# Altium schematic symbol library Crystal_Oscillator.SchLib: 1 symbol
Pins are listed as number, name and electrical type; pins without a type are passive.

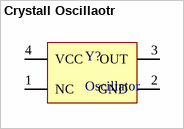
[diagram p0: symbol Crystall Oscillaotr]

## Crystall Oscillaotr
designator Y?, comment Oscillator
Crystall Oscillaotr
footprint Crystal oscillator
pins: 1 NC, 2 GND, 3 OUT, 4 VCC